# Altium schematic symbol library Indicator.SchLib: 20 symbols
Pins are listed as number, name and electrical type; pins without a type are passive.

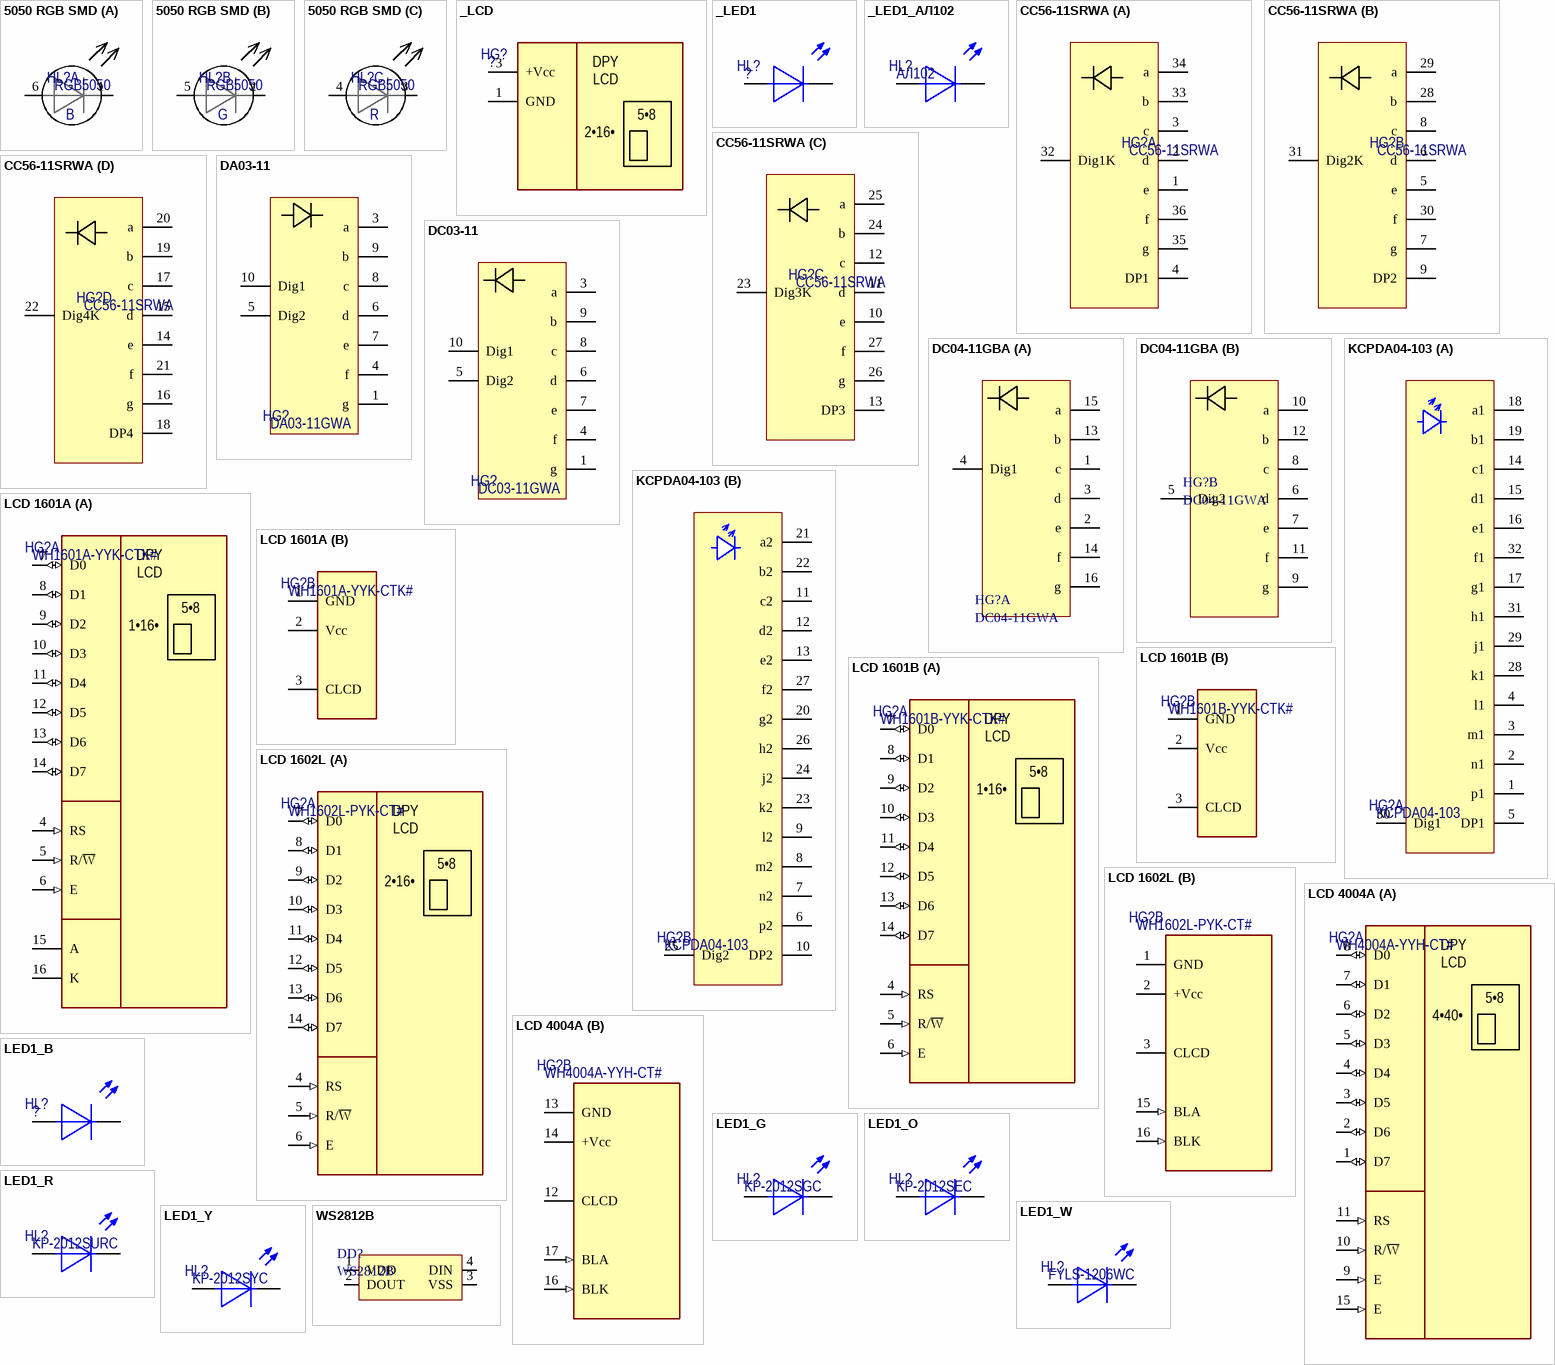
[diagram p0: symbols 5050 RGB SMD to WS2812B]

## 5050 RGB SMD
designator HL?, comment RGB5050
Manufacturer: *; ManufacturerPartNumber: RGB5050; Price: *; Note: *; Supplier: *
footprint 5050 (RGB-led)
part A pins: 1, 6
part B pins: 2, 5
part C pins: 3, 4
3 alternate drawings of the same symbol
part A text: B
part B text: G
part C text: R

## _LCD
designator HG?, comment ?
Liquid crystal display; Manufacturer: ?; ComponentLink2Description: Datasheet-local; ComponentLink2URL: *; ManufacturerPartNumber: ?
pins: 1 GND (power) "Ground", 3 +Vcc (power) "Vcc"
text: DPY; LCD; 5•8; 2•16•

## _LED1
designator HL?, comment ?
Diod LED; ComponentLink1Description: Datasheet; ComponentLink2Description: Datasheet-local; ComponentLink2URL: *; Color: *; ManufacturerPartNumber: ?
pins: 1, 2
3 alternate drawings of the same symbol

## _LED1_АЛ102
designator HL?, comment АЛ102
Diod LED; Manufacturer: СССР; ComponentLink1Description: Datasheet; Package: штырьевой; ComponentLink2Description: Datasheet-local; ManufacturerPartNumber: АЛ102
footprint LED_diode
pins: A, K
3 alternate drawings of the same symbol

## CC56-11SRWA
designator HG?
The Super Bright Red source color devices are made with  Gallium Aluminum Arsenide Red Light Emitting Diode.; Manufacturer: Kingbright; ComponentLink1Description: Datasheet; ComponentLink1URL: http://lib.chipdip.ru/195/DOC000195478.pdf; Price: 151.88; ManufacturerPartNumber: CC56-11SRWA; Note: *; Package: not standard; Supplier: Промэлектроника
footprint CC56-11SRWA
part A pins: 1 e, 2 d, 3 c, 4 DP1, 32 Dig1K, 33 b, 34 a, 35 g, 36 f
part B pins: 5 e, 6 d, 7 g, 8 c, 9 DP2, 28 b, 29 a, 30 f, 31 Dig2K
part C pins: 10 e, 11 d, 12 c, 13 DP3, 23 Dig3K, 24 b, 25 a, 26 g, 27 f
part D pins: 14 e, 15 d, 16 g, 17 c, 18 DP4, 19 b, 20 a, 21 f, 22 Dig4K

## DA03-11
designator HG?, comment DA03-11GWA
7-segment; 7.6mm; green; 2.2-5.6mcd; anode; No.char:2; Manufacturer: KINGBRIGHT ELECTRONIC; ManufacturerPartNumber: DA03-11GWA; ComponentLink1URL: http://www.tme.eu/en/details/da03-11gwa/double-led-displays/; ComponentLink1Description: http://www.tme.eu/en/details/da03-11gwa/double-led-displays/; Price: 75; Note: *; Supplier: *
footprint DX03-11 (7-segment; 7.6mm; 2 char)
pins: 1 g, 3 a, 4 f, 5 Dig2, 6 d, 7 e, 8 c, 9 b, 10 Dig1

## DC03-11
designator HG?, comment DC03-11GWA
7-segment; 7.6mm; green; 2.2-5.6mcd; cathode; 0.3"; Manufacturer: KINGBRIGHT ELECTRONIC; ManufacturerPartNumber: DC03-11GWA; ComponentLink1URL: http://www.tme.eu/en/details/dc03-11gwa/double-led-displays/; ComponentLink1Description: http://www.tme.eu/en/details/dc03-11gwa/double-led-displays/; Price: 75; Note: *; Supplier: *
footprint DX03-11 (7-segment; 7.6mm; 2 char)
pins: 1 g, 3 a, 4 f, 5 Dig2, 6 d, 7 e, 8 c, 9 b, 10 Dig1

## DC04-11GBA
designator HG?, comment DC04-11GWA
LED Displays & Accessories HI EFF RED DIFFUSED 2 DIGIT; Manufacturer: Kingbright; Forward Voltage: 2V; Max Power Dissipation: 75mW; Number of Characters: 2; Forward Current: 30mA; Test Current: 20mA; Luminous Intensity: 6.4mcd; Element Configuration: Common Cathode; Wavelength: 625nm; Supplier 1: Mouser; ManufacturerPartNumber: DC04-11GWA; Stock 1: 0; Pricing 1: 1=2.1, 10=1.38, 50=1.38, 100=1.11, 1000=0.876, 10000=0.779 (USD); Case/Package: DIP; Number of Pins: 16; Colour: Red; Min Operating Temperature: -40°C; Max Operating Temperature: 85°C; Package Quantity: 25; Packaging: Rail/Tube; Illumination Colour: Red; Operating Supply Voltage: 2V; Length: 0.63inch; Height: 0.63inch; Width: 0.795inch; REACH SVHC: No SVHC; ComponentLink1URL: https://datasheet.ciiva.com/4422/dc04-11ewa-41787-4422009.pdf; ComponentLink1Description: https://datasheet.ciiva.com/4422/dc04-11ewa-41787-4422009.pdf; ComponentLink2URL: https://datasheet.ciiva.com/2104/dc04-11ewa-2104931.pdf; ComponentLink2Description: https://datasheet.ciiva.com/2104/dc04-11ewa-2104931.pdf; ComponentLink3URL: https://datasheet.ciiva.com/26291/dc04-11ewa-26291639.pdf; ComponentLink3Description: https://datasheet.ciiva.com/26291/dc04-11ewa-26291639.pdf; Supplier Part Number 1: 604-DC04-11EWA
footprint DX04-11
part A pins: 1 c, 2 e, 3 d, 4 Dig1, 13 b, 14 f, 15 a, 16 g
part B pins: 5 Dig2, 6 d, 7 e, 8 c, 9 g, 10 a, 11 f, 12 b

## KCPDA04-103
designator HG?
Manufacturer: Kingbright; Note: KCPDA; ManufacturerPartNumber: KCPDA04-103; ComponentLink1URL: http://catalog.gaw.ru/project/download.php?id=10697; ComponentLink1Description: Datasheet; Price: 89; Supplier: *
footprint KCPD-SMD-alphanum (Alphanumerical kingbright led display KCPD format)
part A pins: 1 p1, 2 n1, 3 m1, 4 l1, 5 DP1, 14 c1, 15 d1, 16 e1, 17 g1, 18 a1, 19 b1, 28 k1, 29 j1, 30 Dig1, 31 h1, 32 f1
part B pins: 6 p2, 7 n2, 8 m2, 9 l2, 10 DP2, 11 c2, 12 d2, 13 e2, 20 g2, 21 a2, 22 b2, 23 k2, 24 j2, 25 Dig2, 26 h2, 27 f2

## LCD 1601A
designator HG?, comment WH1601A-YYK-CTK#
Liquid crystal display; Manufacturer: Winstar; ComponentLink1URL: http://www.promelec.ru/pdf/wh1602l.pdf; ComponentLink1Description: Datasheet; ComponentLink2Description: Datasheet-local; ComponentLink2URL: *; ManufacturerPartNumber: WH1601A-YYK-CTK#
footprint WH1601A
part A pins: 4 RS (in), 5 R/~{W} (in) "R/W", 6 E (in), 7 D0 (io) "DB0", 8 D1 (io) "DB1", 9 D2 (io) "DB2", 10 D3 (io) "DB0", 11 D4 (io) "DB0", 12 D5 (io) "DB0", 13 D6 (io) "DB0", 14 D7 (io) "DB0", 15 A, 16 K
part B pins: 1 GND (power) "Vss", 2 Vcc (power) "Vdd", 3 CLCD (power) "V0"
part A text: DPY; LCD; 5•8; 1•16•

## LCD 1601B
designator HG?, comment WH1601B-YYK-CTK#
Liquid crystal display; Manufacturer: Winstar; ComponentLink1URL: http://www.promelec.ru/pdf/wh1602l.pdf; ComponentLink1Description: Datasheet; ComponentLink2Description: Datasheet-local; ComponentLink2URL: *; ManufacturerPartNumber: WH1601B-YYK-CTK#
footprint WH1601B
part A pins: 4 RS (in), 5 R/~{W} (in) "R/W", 6 E (in), 7 D0 (io) "DB0", 8 D1 (io) "DB1", 9 D2 (io) "DB2", 10 D3 (io) "DB0", 11 D4 (io) "DB0", 12 D5 (io) "DB0", 13 D6 (io) "DB0", 14 D7 (io) "DB0"
part B pins: 1 GND (power) "Vss", 2 Vcc (power) "Vdd", 3 CLCD (power) "V0"
part A text: DPY; LCD; 5•8; 1•16•

## LCD 1602L
designator HG?, comment WH1602L-PYK-CT#
Liquid crystal display; Manufacturer: Winstar; ComponentLink1URL: http://www.promelec.ru/pdf/wh1602l.pdf; ComponentLink1Description: Datasheet; ComponentLink2Description: Datasheet-local; ComponentLink2URL: *; ManufacturerPartNumber: WH1602L-PYK-CT#
footprint WH1602
footprint WH1602L
part A pins: 4 RS (in), 5 R/~{W} (in) "R/W", 6 E (in), 7 D0 (io) "DB0", 8 D1 (io) "DB1", 9 D2 (io) "DB2", 10 D3 (io) "DB0", 11 D4 (io) "DB0", 12 D5 (io) "DB0", 13 D6 (io) "DB0", 14 D7 (io) "DB0"
part B pins: 1 GND (power) "Vss", 2 +Vcc (power) "Vdd", 3 CLCD (power) "V0", 15 BLA (in), 16 BLK (in)
part A text: DPY; LCD; 5•8; 2•16•

## LCD 4004A
designator HG?, comment WH4004A-YYH-CT#
Liquid crystal display; Manufacturer: Winstar; Note: WH4004; ComponentLink1URL: http://www.promelec.ru/pdf/wh4004a.pdf; ComponentLink1Description: Datasheet1; Price: 1300; ComponentLink2Description: Datasheet2; ComponentLink2URL: http://www.promelec.ru/pdf/WH4004A-BGK-CT.pdf; ManufacturerPartNumber: WH4004A-YYH-CT#
part A pins: 1 D7 (io) "DB0", 2 D6 (io) "DB0", 3 D5 (io) "DB0", 4 D4 (io) "DB0", 5 D3 (io) "DB0", 6 D2 (io) "DB2", 7 D1 (io) "DB1", 8 D0 (io) "DB0", 9 E (in), 10 R/~{W} (in) "R/W", 11 RS (in), 15 E (in)
part B pins: 12 CLCD (power) "V0", 13 GND (power) "Vss", 14 +Vcc (power) "Vdd", 16 BLK (in), 17 BLA (in)
part A text: DPY; LCD; 5•8; 4•40•

## LED1_B
designator HL?, comment ?
Diod LED SMD Blue; ComponentLink1Description: Datasheet; ComponentLink2Description: Datasheet-local; ComponentLink2URL: *; Color: Blue; ManufacturerPartNumber: ?
footprint DIOMELF2012M (MELF Diode, 2-Leads, Body 2,00x1,20mm, IPC Low Density)
pins: 1, 2
3 alternate drawings of the same symbol

## LED1_G
designator HL?, comment KP-2012SGC
Diod LED SMD Green; ComponentLink1Description: Datasheet; Price: 2,88; ComponentLink2Description: Datasheet-local; ComponentLink2URL: *; Color: Green; ManufacturerPartNumber: KP-2012SGC
footprint DIOMELF2012M (MELF Diode, 2-Leads, Body 2,00x1,20mm, IPC Low Density)
pins: 1, 2
3 alternate drawings of the same symbol

## LED1_O
designator HL?, comment KP-2012SEC
Diod LED SMD Orange; ComponentLink1Description: Datasheet; Price: 4,91; ComponentLink2Description: Datasheet-local; ComponentLink2URL: *; Color: Orange; ManufacturerPartNumber: KP-2012SEC
footprint DIOMELF2012M (MELF Diode, 2-Leads, Body 2,00x1,20mm, IPC Low Density)
pins: 1, 2
3 alternate drawings of the same symbol

## LED1_R
designator HL?, comment KP-2012SURC
Diod LED SMD Red; ComponentLink1Description: Datasheet; Price: 5,01; ComponentLink2Description: Datasheet-local; ComponentLink2URL: *; Color: Red; ManufacturerPartNumber: KP-2012SURC
footprint DIOMELF2012M (MELF Diode, 2-Leads, Body 2,00x1,20mm, IPC Low Density)
pins: 1, 2
3 alternate drawings of the same symbol

## LED1_W
designator HL?, comment FYLS-1206WC
Diod LED SMD W; Color: Green; ComponentLink1Description: Datasheet; ComponentLink1URL: http://www.promelec.ru/pdf/FYLS-1206xx.pdf; Price: 1,54; ComponentLink2Description: Datasheet-local; ComponentLink2URL: *; ManufacturerPartNumber: FYLS-1206WC
footprint FYLS-1206WC (LED)
pins: 1, 2
3 alternate drawings of the same symbol

## LED1_Y
designator HL?, comment KP-2012SYC
Diod LED SMD Yellow; ComponentLink1Description: Datasheet; Price: 4,83; ComponentLink2Description: Datasheet-local; ComponentLink2URL: *; Color: Yellow; ManufacturerPartNumber: KP-2012SYC
footprint DIOMELF2012M (MELF Diode, 2-Leads, Body 2,00x1,20mm, IPC Low Density)
pins: 1, 2
3 alternate drawings of the same symbol

## WS2812B
designator DD?
WS2812B 5050 RGB LED WITH INTEGRATED DRIVER CHIP; Length: 5mm; Colour: Blue,Green,Red; Width: 5mm; Mount: Surface Mount; ComponentLink1URL: https://cdn-learn.adafruit.com/downloads/pdf/neopixels-on-raspberry-pi.pdf; ComponentLink1Description: https://cdn-learn.adafruit.com/downloads/pdf/neopixels-on-raspberry-pi.pdf; ComponentLink2URL: http://www.mouser.com/ds/2/737/SK6812_LED_datasheet_-953546.pdf; ComponentLink2Description: http://www.mouser.com/ds/2/737/SK6812_LED_datasheet_-953546.pdf; Manufacturer Purt Number: WS2812B
footprint 5050_4pin (LED 5*5 mm)
pins: 1 VDD (power), 2 DOUT (power), 3 VSS (power), 4 DIN (power)